# Altium footprint library 2020-07-18_08-40-33.PcbLib: 3 footprints
Each footprint in its own frame and in the unit in brackets; x right, y up, seen from the top. Pads: shape width x height; smd on the part's side, far side on the other; paste and mask are expansions set on the pad; w line width, h text height; cw(c..) or ccw(c..) is an arc to the next point about the centre after c.
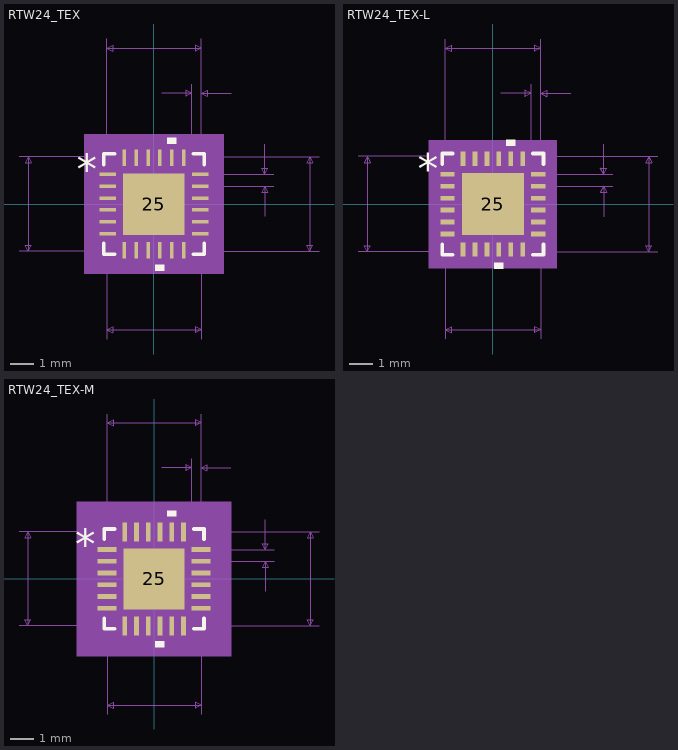
[diagram p0: the footprints below, top view; thin cyan lines are the x and y axes]

## RTW24_TEX [mm]
pads (25):
  rect 0.705x0.148 smd paste+0 mask+0: 1(-1.952,1.25) 2(-1.952,0.75) 3(-1.952,0.25) 4(-1.952,-0.25) 5(-1.952,-0.75) 6(-1.952,-1.25) 13(1.952,-1.25) 14(1.952,-0.75) 15(1.952,-0.25) 16(1.952,0.25) 17(1.952,0.75) 18(1.952,1.25)
  rect 0.148x0.705 smd paste+0 mask+0: 7(-1.25,-1.952) 8(-0.75,-1.952) 9(-0.25,-1.952) 10(0.25,-1.952) 11(0.75,-1.952) 12(1.25,-1.952) 19(1.25,1.952) 20(0.75,1.952) 21(0.25,1.952) 22(-0.25,1.952) 23(-0.75,1.952) 24(-1.25,1.952)
  rect 2.6x2.6 smd paste-1.287 mask+0: 25(0,0)
Top Overlay:
  region: 0.44,-2.559 0.059,-2.559 0.059,-2.813 0.44,-2.813
  region: 0.941,2.559 0.56,2.559 0.56,2.813 0.941,2.813
  lines w0.152: -2.127,-1.657 -2.127,-2.127 -1.657,-2.127 ; -2.127,1.657 -2.127,2.127 -1.657,2.127 ; 1.657,-2.127 2.127,-2.127 2.127,-1.657 ; 1.657,2.127 2.127,2.127 2.127,1.657
  text "*" at -3.257,0.865 h1.27
Top Paste:
  region: -0.1,1.2 -1.2,1.2 -1.2,0.1 -0.1,0.1
  region: -0.1,-0.1 -1.2,-0.1 -1.2,-1.2 -0.1,-1.2
  region: 1.2,1.2 0.1,1.2 0.1,0.1 1.2,0.1
  region: 1.2,-0.1 0.1,-0.1 0.1,-1.2 1.2,-1.2
Mechanical 5:
  region: 2.94,-2.94 -2.94,-2.94 -2.94,2.94 2.94,2.94
Mechanical 7:
  lines w0.025: -5.708,-2 2,-2 ; -5.708,2 2,2 2,-5.708 ; -2,-5.708 -2,2 ; -2,1.25 -2,6.978 ; 0.33,4.692 1.6,4.692 ; 1.25,-2 6.978,-2 ; 1.25,2 6.978,2 ; 1.6,1.25 1.6,5.073 ; 1.952,0.75 5.073,0.75 ; 1.952,1.25 5.073,1.25 ; 2,5.073 2,1.25 2,6.978 ; 3.27,4.692 2,4.692 ; 4.692,-0.52 4.692,0.75 ; 4.692,2.52 4.692,1.25 ; -5.327,-2 -5.327,2 ; -5.327,-2 -5.454,-1.746 -5.2,-1.746 -5.327,-2 ; -5.327,2 -5.454,1.746 -5.2,1.746 -5.327,2 ; -2,-5.327 2,-5.327 ; -2,-5.327 -1.746,-5.2 -1.746,-5.454 -2,-5.327 ; -2,6.597 2,6.597 ; -2,6.597 -1.746,6.724 -1.746,6.47 -2,6.597 ; 1.6,4.692 1.346,4.819 1.346,4.565 1.6,4.692 ; 2,-5.327 1.746,-5.2 1.746,-5.454 2,-5.327 ; 2,4.692 2.254,4.819 2.254,4.565 2,4.692 ; 2,6.597 1.746,6.724 1.746,6.47 2,6.597 ; 4.692,0.75 4.565,0.496 4.819,0.496 4.692,0.75 ; 4.692,1.25 4.565,1.504 4.819,1.504 4.692,1.25 ; 6.597,-2 6.597,2 ; 6.597,-2 6.47,-1.746 6.724,-1.746 6.597,-2 ; 6.597,2 6.47,1.746 6.724,1.746 6.597,2
  text "Default Padstyle: RX5p84Y27p75D0T" at -10.477,-10.179 h1.27
  text "Heat Tab Padstyle: RX102p36Y102p36D0T" at -11.747,-11.703 h1.27
  text "Alt 1 Padstyle: OX60Y90D30P" at -8.572,-14.751 h1.27
  text "Alt 2 Padstyle: OX90Y60D30P" at -8.572,-16.275 h1.27
  text "0.02in/0.5mm" at 5.2,0.683 h0.64
  text "0.016in/0.4mm" at -0.264,5.2 h0.64
  text "0.157in/4mm" at -1.746,7.105 h0.64
  text "0.157in/4mm" at 7.105,-0.318 h0.64
  text "0.157in/4mm" at -9.328,-0.318 h0.64
  text "0.157in/4mm" at -1.746,-6.47 h0.64
Mechanical 13:
  lines w0.025: -2,0.73 -0.73,2 ; -2,-2 2,-2 ; -2,-2 -2,2 ; -2,-2 -2,-2 ; -2,-1.375 -2,-1.125 ; -2,-1.375 -2,-1.125 ; -2,-1.375 -2,-1.375 ; -2,-1.125 -2,-1.125 ; -2,-0.875 -2,-0.625 ; -2,-0.875 -2,-0.625 ; -2,-0.875 -2,-0.875 ; -2,-0.625 -2,-0.625 ; -2,-0.375 -2,-0.125 ; -2,-0.375 -2,-0.125 ; -2,-0.375 -2,-0.375 ; -2,-0.125 -2,-0.125 ; -2,0.125 -2,0.375 ; -2,0.125 -2,0.375 ; -2,0.125 -2,0.125 ; -2,0.375 -2,0.375 ; -2,0.625 -2,0.875 ; -2,0.625 -2,0.875 ; -2,0.625 -2,0.625 ; -2,0.875 -2,0.875 ; -2,1.125 -2,1.375 ; -2,1.125 -2,1.375 ; -2,1.125 -2,1.125 ; -2,1.375 -2,1.375 ; -2,2 2,2 ; -2,2 -2,2 ; -1.375,-2 -1.125,-2 ; -1.375,-2 -1.375,-2 ; -1.375,-2 -1.125,-2 ; -1.375,2 -1.125,2 ; -1.375,2 -1.125,2 ; -1.375,2 -1.375,2 ; -1.125,-2 -1.125,-2 ; -1.125,2 -1.125,2 ; -0.875,-2 -0.625,-2 ; -0.875,-2 -0.875,-2 ; -0.875,-2 -0.625,-2 ; -0.875,2 -0.625,2 ; -0.875,2 -0.625,2 ; -0.875,2 -0.875,2 ; -0.625,-2 -0.625,-2 ; -0.625,2 -0.625,2 ; -0.375,-2 -0.125,-2 ; -0.375,-2 -0.375,-2 ; -0.375,-2 -0.125,-2 ; -0.375,2 -0.125,2 ; -0.375,2 -0.125,2 ; -0.375,2 -0.375,2 ; -0.125,-2 -0.125,-2 ; -0.125,2 -0.125,2 ; 0.125,-2 0.375,-2 ; 0.125,-2 0.125,-2 ; 0.125,-2 0.375,-2 ; 0.125,2 0.375,2 ; 0.125,2 0.375,2 ; 0.125,2 0.125,2 ; 0.375,-2 0.375,-2 ; 0.375,2 0.375,2 ; 0.625,-2 0.875,-2 ; 0.625,-2 0.625,-2 ; 0.625,-2 0.875,-2 ; 0.625,2 0.875,2 ; 0.625,2 0.875,2 ; 0.625,2 0.625,2 ; 0.875,-2 0.875,-2 ; 0.875,2 0.875,2 ; 1.125,-2 1.375,-2 ; 1.125,-2 1.125,-2 ; 1.125,-2 1.375,-2 ; 1.125,2 1.375,2 ; 1.125,2 1.375,2 ; 1.125,2 1.125,2 ; 1.375,-2 1.375,-2 ; 1.375,2 1.375,2 ; 2,-2 2,-2 ; 2,-2 2,2 ; 2,-1.375 2,-1.125 ; 2,-1.375 2,-1.375 ; 2,-1.375 2,-1.125 ; 2,-1.125 2,-1.125 ; 2,-0.875 2,-0.625 ; 2,-0.875 2,-0.875 ; 2,-0.875 2,-0.625 ; 2,-0.625 2,-0.625 ; 2,-0.375 2,-0.125 ; 2,-0.375 2,-0.375 ; 2,-0.375 2,-0.125 ; 2,-0.125 2,-0.125 ; 2,0.125 2,0.375 ; 2,0.125 2,0.125 ; 2,0.125 2,0.375 ; 2,0.375 2,0.375 ; 2,0.625 2,0.875 ; 2,0.625 2,0.625 ; 2,0.625 2,0.875 ; 2,0.875 2,0.875 ; 2,1.125 2,1.375 ; 2,1.125 2,1.125 ; 2,1.125 2,1.375 ; 2,1.375 2,1.375 ; 2,2 2,2
  text "*" at -1.917,0.865 h1.27
Mechanical 15:
  region: -1.578,-2.254 -2.254,-2.254 -2.254,-1.578 -2.559,-1.578 -2.559,1.578 -2.254,1.578 -2.254,2.254 -1.578,2.254 -1.578,2.559 1.578,2.559 1.578,2.254 2.254,2.254 2.254,1.578 2.559,1.578 2.559,-1.578 2.254,-1.578 2.254,-2.254 1.578,-2.254 1.578,-2.559 -1.578,-2.559
  lines w0.152: -2.559,-1.578 -2.254,-1.578 -2.254,-2.254 -1.578,-2.254 -1.578,-2.559 1.578,-2.559 1.578,-2.254 2.254,-2.254 2.254,-1.578 2.559,-1.578 2.559,1.578 2.254,1.578 2.254,2.254 1.578,2.254 1.578,2.559 -1.578,2.559 -1.578,2.254 -2.254,2.254 -2.254,1.578 -2.559,1.578 -2.559,-1.578
3D body: height 0.25, standoff 0, extent 0,0 0.254,0.254

## RTW24_TEX-L [mm]
pads (25):
  rect 0.603x0.199 smd paste+0 mask+0: 1(-1.902,1.25) 2(-1.902,0.75) 3(-1.902,0.25) 4(-1.902,-0.25) 5(-1.902,-0.75) 6(-1.902,-1.25) 13(1.902,-1.25) 14(1.902,-0.75) 15(1.902,-0.25) 16(1.902,0.25) 17(1.902,0.75) 18(1.902,1.25)
  rect 0.199x0.603 smd paste+0 mask+0: 7(-1.25,-1.902) 8(-0.75,-1.902) 9(-0.25,-1.902) 10(0.25,-1.902) 11(0.75,-1.902) 12(1.25,-1.902) 19(1.25,1.902) 20(0.75,1.902) 21(0.25,1.902) 22(-0.25,1.902) 23(-0.75,1.902) 24(-1.25,1.902)
  rect 2.6x2.6 smd paste-1.287 mask+0: 25(0,0)
Top Overlay:
  region: 0.44,-2.457 0.059,-2.457 0.059,-2.711 0.44,-2.711
  region: 0.941,2.457 0.56,2.457 0.56,2.711 0.941,2.711
  lines w0.152: -2.127,-1.682 -2.127,-2.127 -1.682,-2.127 ; -2.127,1.682 -2.127,2.127 -1.682,2.127 ; 1.682,-2.127 2.127,-2.127 2.127,-1.682 ; 1.682,2.127 2.127,2.127 2.127,1.682
  text "*" at -3.156,0.865 h1.27
Top Paste:
  region: -0.1,1.2 -1.2,1.2 -1.2,0.1 -0.1,0.1
  region: -0.1,-0.1 -1.2,-0.1 -1.2,-1.2 -0.1,-1.2
  region: 1.2,1.2 0.1,1.2 0.1,0.1 1.2,0.1
  region: 1.2,-0.1 0.1,-0.1 0.1,-1.2 1.2,-1.2
Mechanical 5:
  region: 2.686,-2.686 -2.686,-2.686 -2.686,2.686 2.686,2.686
Mechanical 7:
  lines w0.025: -5.658,-2 2,-2 ; -5.658,2 2,2 2,-5.658 ; -2,-5.658 -2,2 ; -2,1.25 -2,6.928 ; 0.33,4.642 1.6,4.642 ; 1.25,-2 6.928,-2 ; 1.25,2 6.928,2 ; 1.6,1.25 1.6,5.023 ; 1.902,0.75 5.023,0.75 ; 1.902,1.25 5.023,1.25 ; 2,5.023 2,1.25 2,6.928 ; 3.27,4.642 2,4.642 ; 4.642,-0.52 4.642,0.75 ; 4.642,2.52 4.642,1.25 ; -5.277,-2 -5.277,2 ; -5.277,-2 -5.404,-1.746 -5.15,-1.746 -5.277,-2 ; -5.277,2 -5.404,1.746 -5.15,1.746 -5.277,2 ; -2,-5.277 2,-5.277 ; -2,-5.277 -1.746,-5.15 -1.746,-5.404 -2,-5.277 ; -2,6.547 2,6.547 ; -2,6.547 -1.746,6.674 -1.746,6.42 -2,6.547 ; 1.6,4.642 1.346,4.769 1.346,4.515 1.6,4.642 ; 2,-5.277 1.746,-5.15 1.746,-5.404 2,-5.277 ; 2,4.642 2.254,4.769 2.254,4.515 2,4.642 ; 2,6.547 1.746,6.674 1.746,6.42 2,6.547 ; 4.642,0.75 4.515,0.496 4.769,0.496 4.642,0.75 ; 4.642,1.25 4.515,1.504 4.769,1.504 4.642,1.25 ; 6.547,-2 6.547,2 ; 6.547,-2 6.42,-1.746 6.674,-1.746 6.547,-2 ; 6.547,2 6.42,1.746 6.674,1.746 6.547,2
  text "Default Padstyle: RX7p84Y23p75D0T" at -10.477,-10.077 h1.27
  text "Heat Tab Padstyle: RX102p36Y102p36D0T" at -11.747,-11.601 h1.27
  text "Alt 1 Padstyle: OX60Y90D30P" at -8.572,-14.649 h1.27
  text "Alt 2 Padstyle: OX90Y60D30P" at -8.572,-16.173 h1.27
  text "0.02in/0.5mm" at 5.15,0.683 h0.64
  text "0.016in/0.4mm" at -0.264,5.15 h0.64
  text "0.157in/4mm" at -1.746,7.055 h0.64
  text "0.157in/4mm" at 7.055,-0.318 h0.64
  text "0.157in/4mm" at -9.277,-0.318 h0.64
  text "0.157in/4mm" at -1.746,-6.42 h0.64
Mechanical 13:
  lines w0.025: -2,0.73 -0.73,2 ; -2,-2 2,-2 ; -2,-2 -2,2 ; -2,-2 -2,-2 ; -2,-1.375 -2,-1.125 ; -2,-1.375 -2,-1.125 ; -2,-1.375 -2,-1.375 ; -2,-1.125 -2,-1.125 ; -2,-0.875 -2,-0.625 ; -2,-0.875 -2,-0.625 ; -2,-0.875 -2,-0.875 ; -2,-0.625 -2,-0.625 ; -2,-0.375 -2,-0.125 ; -2,-0.375 -2,-0.125 ; -2,-0.375 -2,-0.375 ; -2,-0.125 -2,-0.125 ; -2,0.125 -2,0.375 ; -2,0.125 -2,0.375 ; -2,0.125 -2,0.125 ; -2,0.375 -2,0.375 ; -2,0.625 -2,0.875 ; -2,0.625 -2,0.875 ; -2,0.625 -2,0.625 ; -2,0.875 -2,0.875 ; -2,1.125 -2,1.375 ; -2,1.125 -2,1.375 ; -2,1.125 -2,1.125 ; -2,1.375 -2,1.375 ; -2,2 2,2 ; -2,2 -2,2 ; -1.375,-2 -1.125,-2 ; -1.375,-2 -1.375,-2 ; -1.375,-2 -1.125,-2 ; -1.375,2 -1.125,2 ; -1.375,2 -1.125,2 ; -1.375,2 -1.375,2 ; -1.125,-2 -1.125,-2 ; -1.125,2 -1.125,2 ; -0.875,-2 -0.625,-2 ; -0.875,-2 -0.875,-2 ; -0.875,-2 -0.625,-2 ; -0.875,2 -0.625,2 ; -0.875,2 -0.625,2 ; -0.875,2 -0.875,2 ; -0.625,-2 -0.625,-2 ; -0.625,2 -0.625,2 ; -0.375,-2 -0.125,-2 ; -0.375,-2 -0.375,-2 ; -0.375,-2 -0.125,-2 ; -0.375,2 -0.125,2 ; -0.375,2 -0.125,2 ; -0.375,2 -0.375,2 ; -0.125,-2 -0.125,-2 ; -0.125,2 -0.125,2 ; 0.125,-2 0.375,-2 ; 0.125,-2 0.125,-2 ; 0.125,-2 0.375,-2 ; 0.125,2 0.375,2 ; 0.125,2 0.375,2 ; 0.125,2 0.125,2 ; 0.375,-2 0.375,-2 ; 0.375,2 0.375,2 ; 0.625,-2 0.875,-2 ; 0.625,-2 0.625,-2 ; 0.625,-2 0.875,-2 ; 0.625,2 0.875,2 ; 0.625,2 0.875,2 ; 0.625,2 0.625,2 ; 0.875,-2 0.875,-2 ; 0.875,2 0.875,2 ; 1.125,-2 1.375,-2 ; 1.125,-2 1.125,-2 ; 1.125,-2 1.375,-2 ; 1.125,2 1.375,2 ; 1.125,2 1.375,2 ; 1.125,2 1.125,2 ; 1.375,-2 1.375,-2 ; 1.375,2 1.375,2 ; 2,-2 2,-2 ; 2,-2 2,2 ; 2,-1.375 2,-1.125 ; 2,-1.375 2,-1.375 ; 2,-1.375 2,-1.125 ; 2,-1.125 2,-1.125 ; 2,-0.875 2,-0.625 ; 2,-0.875 2,-0.875 ; 2,-0.875 2,-0.625 ; 2,-0.625 2,-0.625 ; 2,-0.375 2,-0.125 ; 2,-0.375 2,-0.375 ; 2,-0.375 2,-0.125 ; 2,-0.125 2,-0.125 ; 2,0.125 2,0.375 ; 2,0.125 2,0.125 ; 2,0.125 2,0.375 ; 2,0.375 2,0.375 ; 2,0.625 2,0.875 ; 2,0.625 2,0.625 ; 2,0.625 2,0.875 ; 2,0.875 2,0.875 ; 2,1.125 2,1.375 ; 2,1.125 2,1.125 ; 2,1.125 2,1.375 ; 2,1.375 2,1.375 ; 2,2 2,2
  text "*" at -1.917,0.865 h1.27
Mechanical 15:
  region: -1.451,-2.102 -2.102,-2.102 -2.102,-1.451 -2.305,-1.451 -2.305,1.451 -2.102,1.451 -2.102,2.102 -1.451,2.102 -1.451,2.305 1.451,2.305 1.451,2.102 2.102,2.102 2.102,1.451 2.305,1.451 2.305,-1.451 2.102,-1.451 2.102,-2.102 1.451,-2.102 1.451,-2.305 -1.451,-2.305
  lines w0.152: -2.305,-1.451 -2.102,-1.451 -2.102,-2.102 -1.451,-2.102 -1.451,-2.305 1.451,-2.305 1.451,-2.102 2.102,-2.102 2.102,-1.451 2.305,-1.451 2.305,1.451 2.102,1.451 2.102,2.102 1.451,2.102 1.451,2.305 -1.451,2.305 -1.451,2.102 -2.102,2.102 -2.102,1.451 -2.305,1.451 -2.305,-1.451
3D body: height 0.25, standoff 0, extent 0,0 0.254,0.254

## RTW24_TEX-M [mm]
pads (25):
  rect 0.806x0.199 smd paste+0 mask+0: 1(-2.003,1.25) 2(-2.003,0.75) 3(-2.003,0.25) 4(-2.003,-0.25) 5(-2.003,-0.75) 6(-2.003,-1.25) 13(2.003,-1.25) 14(2.003,-0.75) 15(2.003,-0.25) 16(2.003,0.25) 17(2.003,0.75) 18(2.003,1.25)
  rect 0.199x0.806 smd paste+0 mask+0: 7(-1.25,-2.003) 8(-0.75,-2.003) 9(-0.25,-2.003) 10(0.25,-2.003) 11(0.75,-2.003) 12(1.25,-2.003) 19(1.25,2.003) 20(0.75,2.003) 21(0.25,2.003) 22(-0.25,2.003) 23(-0.75,2.003) 24(-1.25,2.003)
  rect 2.6x2.6 smd paste-1.287 mask+0: 25(0,0)
Top Overlay:
  region: 0.44,-2.66 0.059,-2.66 0.059,-2.914 0.44,-2.914
  region: 0.941,2.66 0.56,2.66 0.56,2.914 0.941,2.914
  lines w0.152: -2.127,-1.682 -2.127,-2.127 -1.682,-2.127 ; -2.127,1.682 -2.127,2.127 -1.682,2.127 ; 1.682,-2.127 2.127,-2.127 2.127,-1.682 ; 1.682,2.127 2.127,2.127 2.127,1.682
  text "*" at -3.359,0.865 h1.27
Top Paste:
  region: -0.1,1.2 -1.2,1.2 -1.2,0.1 -0.1,0.1
  region: -0.1,-0.1 -1.2,-0.1 -1.2,-1.2 -0.1,-1.2
  region: 1.2,1.2 0.1,1.2 0.1,0.1 1.2,0.1
  region: 1.2,-0.1 0.1,-0.1 0.1,-1.2 1.2,-1.2
Mechanical 5:
  region: 3.295,-3.295 -3.295,-3.295 -3.295,3.295 3.295,3.295
Mechanical 7:
  lines w0.025: -5.759,-2 2,-2 ; -5.759,2 2,2 2,-5.759 ; -2,-5.759 -2,2 ; -2,1.25 -2,7.029 ; 0.33,4.743 1.6,4.743 ; 1.25,-2 7.029,-2 ; 1.25,2 7.029,2 ; 1.6,1.25 1.6,5.124 ; 2,5.124 2,1.25 2,7.029 ; 2.003,0.75 5.124,0.75 ; 2.003,1.25 5.124,1.25 ; 3.27,4.743 2,4.743 ; 4.743,-0.52 4.743,0.75 ; 4.743,2.52 4.743,1.25 ; -5.378,-2 -5.378,2 ; -5.378,-2 -5.505,-1.746 -5.251,-1.746 -5.378,-2 ; -5.378,2 -5.505,1.746 -5.251,1.746 -5.378,2 ; -2,-5.378 2,-5.378 ; -2,-5.378 -1.746,-5.251 -1.746,-5.505 -2,-5.378 ; -2,6.648 2,6.648 ; -2,6.648 -1.746,6.775 -1.746,6.521 -2,6.648 ; 1.6,4.743 1.346,4.87 1.346,4.616 1.6,4.743 ; 2,-5.378 1.746,-5.251 1.746,-5.505 2,-5.378 ; 2,4.743 2.254,4.87 2.254,4.616 2,4.743 ; 2,6.648 1.746,6.775 1.746,6.521 2,6.648 ; 4.743,0.75 4.616,0.496 4.87,0.496 4.743,0.75 ; 4.743,1.25 4.616,1.504 4.87,1.504 4.743,1.25 ; 6.648,-2 6.648,2 ; 6.648,-2 6.521,-1.746 6.775,-1.746 6.648,-2 ; 6.648,2 6.521,1.746 6.775,1.746 6.648,2
  text "Default Padstyle: RX7p84Y31p75D0T" at -10.477,-10.28 h1.27
  text "Heat Tab Padstyle: RX102p36Y102p36D0T" at -11.747,-11.804 h1.27
  text "Alt 1 Padstyle: OX60Y90D30P" at -8.572,-14.852 h1.27
  text "Alt 2 Padstyle: OX90Y60D30P" at -8.572,-16.376 h1.27
  text "0.02in/0.5mm" at 5.251,0.683 h0.64
  text "0.016in/0.4mm" at -0.264,5.251 h0.64
  text "0.157in/4mm" at -1.746,7.156 h0.64
  text "0.157in/4mm" at 7.156,-0.318 h0.64
  text "0.157in/4mm" at -9.379,-0.318 h0.64
  text "0.157in/4mm" at -1.746,-6.521 h0.64
Mechanical 13:
  lines w0.025: -2,0.73 -0.73,2 ; -2,-2 2,-2 ; -2,-2 -2,2 ; -2,-2 -2,-2 ; -2,-1.375 -2,-1.125 ; -2,-1.375 -2,-1.125 ; -2,-1.375 -2,-1.375 ; -2,-1.125 -2,-1.125 ; -2,-0.875 -2,-0.625 ; -2,-0.875 -2,-0.625 ; -2,-0.875 -2,-0.875 ; -2,-0.625 -2,-0.625 ; -2,-0.375 -2,-0.125 ; -2,-0.375 -2,-0.125 ; -2,-0.375 -2,-0.375 ; -2,-0.125 -2,-0.125 ; -2,0.125 -2,0.375 ; -2,0.125 -2,0.375 ; -2,0.125 -2,0.125 ; -2,0.375 -2,0.375 ; -2,0.625 -2,0.875 ; -2,0.625 -2,0.875 ; -2,0.625 -2,0.625 ; -2,0.875 -2,0.875 ; -2,1.125 -2,1.375 ; -2,1.125 -2,1.375 ; -2,1.125 -2,1.125 ; -2,1.375 -2,1.375 ; -2,2 2,2 ; -2,2 -2,2 ; -1.375,-2 -1.125,-2 ; -1.375,-2 -1.375,-2 ; -1.375,-2 -1.125,-2 ; -1.375,2 -1.125,2 ; -1.375,2 -1.125,2 ; -1.375,2 -1.375,2 ; -1.125,-2 -1.125,-2 ; -1.125,2 -1.125,2 ; -0.875,-2 -0.625,-2 ; -0.875,-2 -0.875,-2 ; -0.875,-2 -0.625,-2 ; -0.875,2 -0.625,2 ; -0.875,2 -0.625,2 ; -0.875,2 -0.875,2 ; -0.625,-2 -0.625,-2 ; -0.625,2 -0.625,2 ; -0.375,-2 -0.125,-2 ; -0.375,-2 -0.375,-2 ; -0.375,-2 -0.125,-2 ; -0.375,2 -0.125,2 ; -0.375,2 -0.125,2 ; -0.375,2 -0.375,2 ; -0.125,-2 -0.125,-2 ; -0.125,2 -0.125,2 ; 0.125,-2 0.375,-2 ; 0.125,-2 0.125,-2 ; 0.125,-2 0.375,-2 ; 0.125,2 0.375,2 ; 0.125,2 0.375,2 ; 0.125,2 0.125,2 ; 0.375,-2 0.375,-2 ; 0.375,2 0.375,2 ; 0.625,-2 0.875,-2 ; 0.625,-2 0.625,-2 ; 0.625,-2 0.875,-2 ; 0.625,2 0.875,2 ; 0.625,2 0.875,2 ; 0.625,2 0.625,2 ; 0.875,-2 0.875,-2 ; 0.875,2 0.875,2 ; 1.125,-2 1.375,-2 ; 1.125,-2 1.125,-2 ; 1.125,-2 1.375,-2 ; 1.125,2 1.375,2 ; 1.125,2 1.375,2 ; 1.125,2 1.125,2 ; 1.375,-2 1.375,-2 ; 1.375,2 1.375,2 ; 2,-2 2,-2 ; 2,-2 2,2 ; 2,-1.375 2,-1.125 ; 2,-1.375 2,-1.375 ; 2,-1.375 2,-1.125 ; 2,-1.125 2,-1.125 ; 2,-0.875 2,-0.625 ; 2,-0.875 2,-0.875 ; 2,-0.875 2,-0.625 ; 2,-0.625 2,-0.625 ; 2,-0.375 2,-0.125 ; 2,-0.375 2,-0.375 ; 2,-0.375 2,-0.125 ; 2,-0.125 2,-0.125 ; 2,0.125 2,0.375 ; 2,0.125 2,0.125 ; 2,0.125 2,0.375 ; 2,0.375 2,0.375 ; 2,0.625 2,0.875 ; 2,0.625 2,0.625 ; 2,0.625 2,0.875 ; 2,0.875 2,0.875 ; 2,1.125 2,1.375 ; 2,1.125 2,1.125 ; 2,1.125 2,1.375 ; 2,1.375 2,1.375 ; 2,2 2,2
  text "*" at -1.917,0.865 h1.27
Mechanical 15:
  region: -1.858,-2.508 -2.508,-2.508 -2.508,-1.858 -2.914,-1.858 -2.914,1.858 -2.508,1.858 -2.508,2.508 -1.858,2.508 -1.858,2.914 1.858,2.914 1.858,2.508 2.508,2.508 2.508,1.858 2.914,1.858 2.914,-1.858 2.508,-1.858 2.508,-2.508 1.858,-2.508 1.858,-2.914 -1.858,-2.914
  lines w0.152: -2.914,-1.858 -2.508,-1.858 -2.508,-2.508 -1.858,-2.508 -1.858,-2.914 1.858,-2.914 1.858,-2.508 2.508,-2.508 2.508,-1.858 2.914,-1.858 2.914,1.858 2.508,1.858 2.508,2.508 1.858,2.508 1.858,2.914 -1.858,2.914 -1.858,2.508 -2.508,2.508 -2.508,1.858 -2.914,1.858 -2.914,-1.858
3D body: height 0.25, standoff 0, extent 0,0 0.254,0.254